# Altium integrated library TI Power Management Linear Regulator Dual Channel LDO.IntLib: 299 symbols (part 10 of 15)
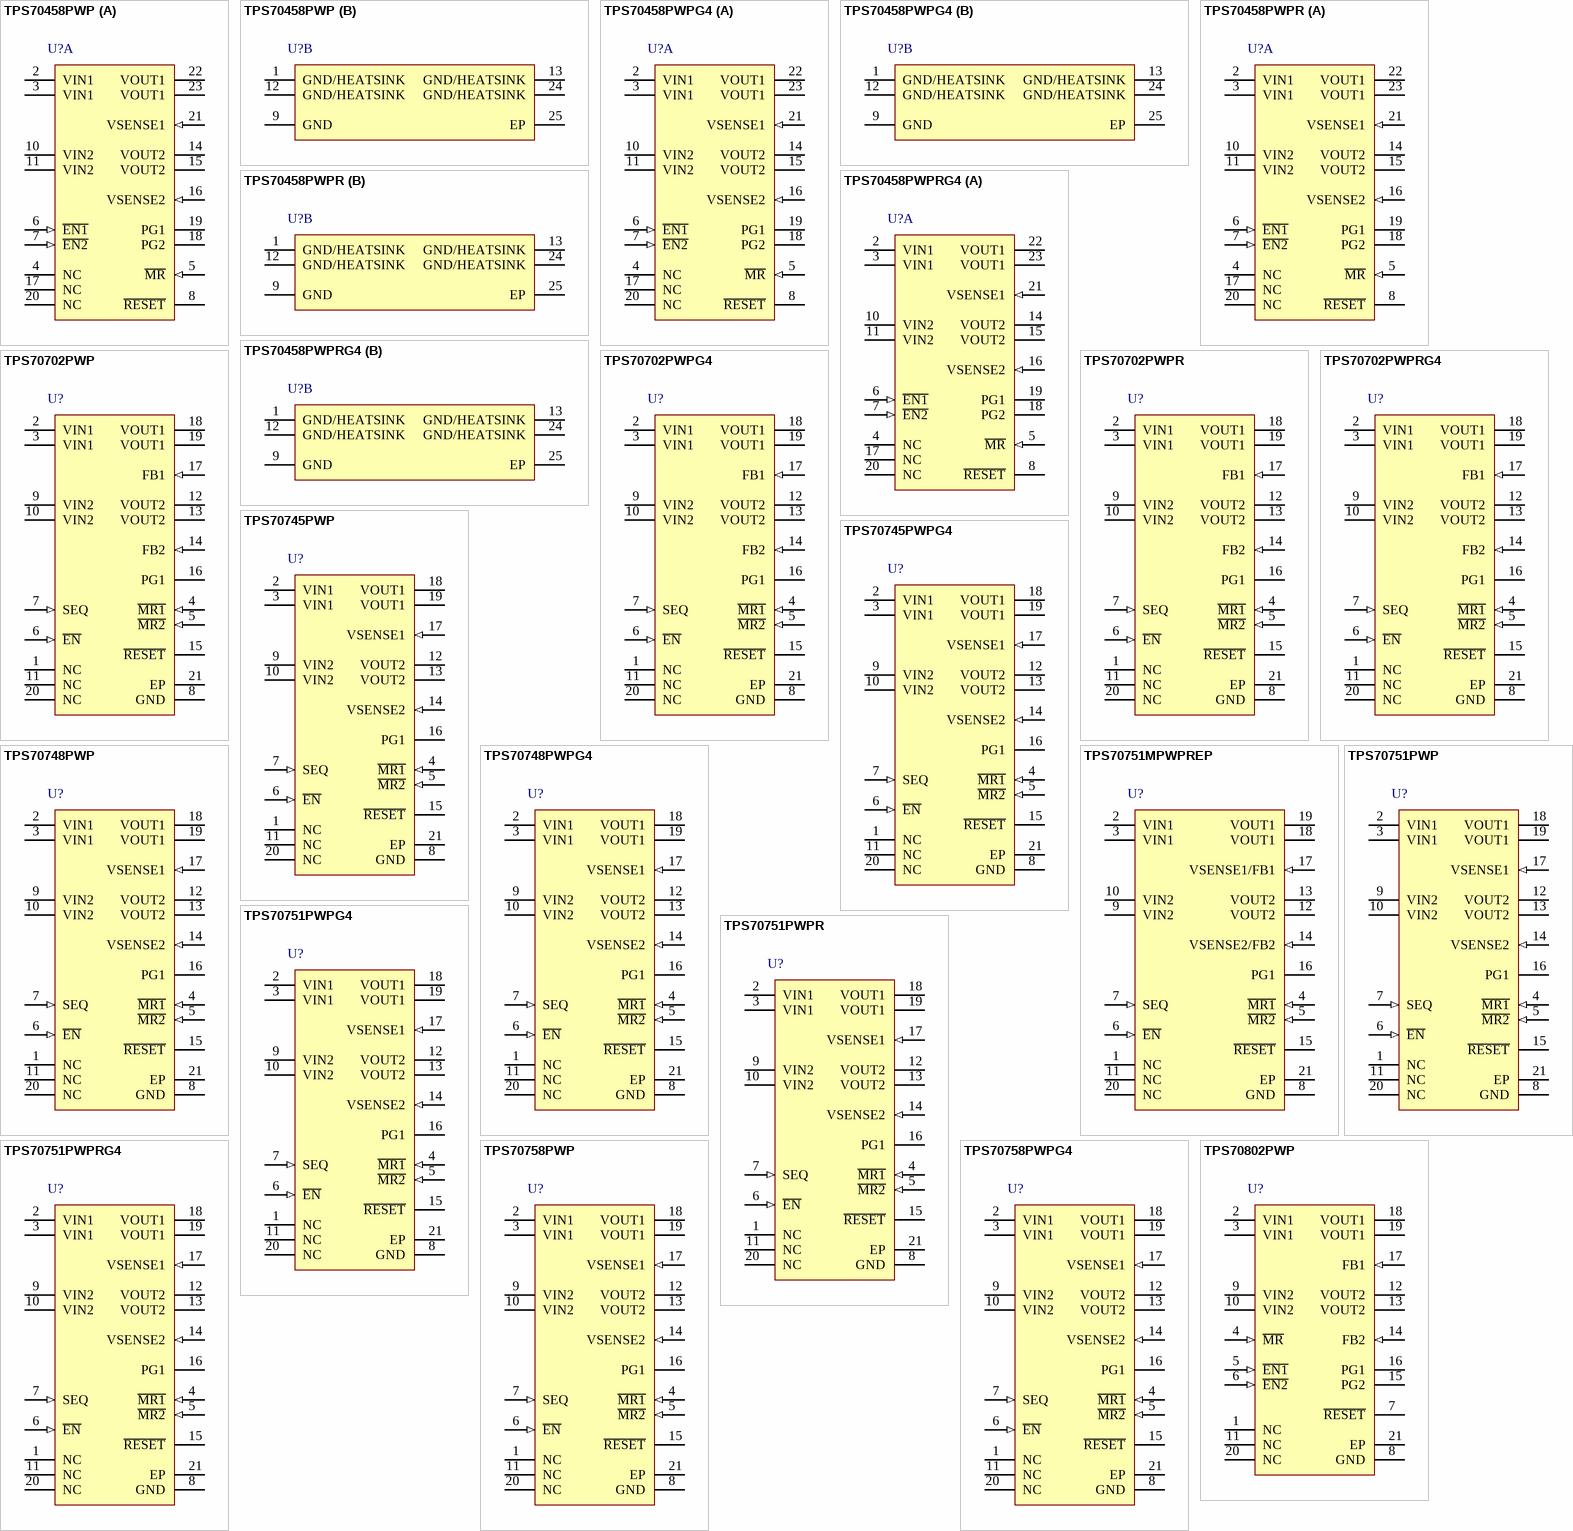
[diagram p20: symbols TPS70458PWP to TPS70802PWP]

## TPS70458PWPR
designator U?
Dual Output LDO, 1 A, Fixed 3.3, 2.5 V Output, 2.7 to 6 V Input, with Integrated SVS, 24-pin HTSSOP (PWP), -40 to 125 degC, Green (RoHS & no Sb/Br); Manufacturer: Texas Instruments; PartNumber: TPS70458PWPR; Iout(Max)(A): 1; Iout2(A): 2; Iq(Typ)(mA): 0.18; SubFamily: Dual Channel LDO; Vdo(Typ)(mV): 160; Vin(Max)(V): 6; Vin(Min)(V): 2.7; Vout(Max)(V): 3.3; Vout2(Max)(V): 2.5; DatasheetVersion: SLVS307F; PackageVersion: 4073225-5/I; PackageReference: PWP24-4210X2010TP; PackageDescription: 24-Pin Plastic Small Outline, Body 4.4 x 7.8 mm, Pitch 0.65 mm; Supplier 1: Digi-Key; Supplier Part Number 1: TPS70458PWPR-ND; Supplier 2: Mouser; Supplier Part Number 2: 595-TPS70458PWPR; Eco-Plan: Green (RoHS & no Sb/Br); Fixed Output Options(V): 3.3, 2.5; Vout(Min)(V): 3.3; Vout2(Min)(V): 2.5; Mounting Technology: Surface Mount; Code_JEDEC: MO-153; ComponentLink1Description: Manufacturer URL; ComponentLink1URL: http://www.ti.com/; ComponentLink2Description: Datasheet; ComponentLink2URL: http://www.ti.com/general/docs/lit/getliterature.tsp?genericPartNumber=TPS70458&fileType=pdf; ComponentLink3Description: Package Specification; ComponentLink3URL: http://www.ti.com/litv/pdf/mpds372
footprint TI-PWP24-4210X2010TP_N (SOP, 24-Leads, Body 7.8x4.4mm, Pitch 0.65mm, Thermal Pad 4.205X2.005mm, IPC Medium Density)
footprint TI-PWP24-4210X2010TP_L (SOP, 24-Leads, Body 7.8x4.4mm, Pitch 0.65mm, Thermal Pad 4.205X2.005mm, IPC High Density)
footprint TI-PWP24-4210X2010TP_M (SOP, 24-Leads, Body 7.8x4.4mm, Pitch 0.65mm, Thermal Pad 4.205X2.005mm, IPC Low Density)
part A pins: 2 VIN1 (power) "Input voltage of regulator 1", 3 VIN1 (power) "Input voltage of regulator 1", 4 NC "No connection", 5 ~{MR} (in) "Manual reset input, active low, pulled up internally", 6 ~{EN1} (in) "Active low enable for VOUT1", 7 ~{EN2} (in) "Active low enable for VOUT2", 8 ~{RESET} (hiz) "Open drain output, SVS (power-on reset) signal, active low", 10 VIN2 (power) "Input voltage of regulator 2", 11 VIN2 (power) "Input voltage of regulator 2", 14 VOUT2 (power) "Output voltage of regulator 2", 15 VOUT2 (power) "Output voltage of regulator 2", 16 VSENSE2 (in) "Regulator 2 output voltage sense", 17 NC "No connection", 18 PG2 (hiz) "Open drain output, low when VOUT2 voltage is less than 95% of the nominal regulated voltage", 19 PG1 (hiz) "Open drain output, low when VOUT1 voltage is less than 95% of the nominal regulated voltage", 20 NC "No connection", 21 VSENSE1 (in) "Regulator 1 output voltage sense", 22 VOUT1 (power) "Output voltage of regulator 1", 23 VOUT1 (power) "Output voltage of regulator 1"
part B pins: 1 GND/HEATSINK (power) "Ground/heatsink", 9 GND (power) "Ground", 12 GND/HEATSINK (power) "Ground/heatsink", 13 GND/HEATSINK (power) "Ground/heatsink", 24 GND/HEATSINK (power) "Ground/heatsink", 25 EP "Exposed Thermal Pad"

## TPS70458PWPRG4
designator U?
Dual Output LDO, 1 A, Fixed 3.3, 2.5 V Output, 2.7 to 6 V Input, with Integrated SVS, 24-pin HTSSOP (PWP), -40 to 125 degC, Green (RoHS & no Sb/Br); Manufacturer: Texas Instruments; PartNumber: TPS70458PWPRG4; Iout(Max)(A): 1; Iout2(A): 2; Iq(Typ)(mA): 0.18; SubFamily: Dual Channel LDO; Vdo(Typ)(mV): 160; Vin(Max)(V): 6; Vin(Min)(V): 2.7; Vout(Max)(V): 3.3; Vout2(Max)(V): 2.5; DatasheetVersion: SLVS307F; PackageVersion: 4073225-5/I; PackageReference: PWP24-4210X2010TP; PackageDescription: 24-Pin Plastic Small Outline, Body 4.4 x 7.8 mm, Pitch 0.65 mm; Supplier 1: Digi-Key; Supplier Part Number 1: TPS70458PWPRG4-ND; Supplier 2: Newark; Supplier Part Number 2: 54K1767; Supplier 3: Mouser; Supplier Part Number 3: 595-TPS70458PWPRG4; Eco-Plan: Green (RoHS & no Sb/Br); Fixed Output Options(V): 3.3, 2.5; Vout(Min)(V): 3.3; Vout2(Min)(V): 2.5; Mounting Technology: Surface Mount; Code_JEDEC: MO-153; ComponentLink1Description: Manufacturer URL; ComponentLink1URL: http://www.ti.com/; ComponentLink2Description: Datasheet; ComponentLink2URL: http://www.ti.com/general/docs/lit/getliterature.tsp?genericPartNumber=TPS70458&fileType=pdf; ComponentLink3Description: Package Specification; ComponentLink3URL: http://www.ti.com/litv/pdf/mpds372
footprint TI-PWP24-4210X2010TP_N (SOP, 24-Leads, Body 7.8x4.4mm, Pitch 0.65mm, Thermal Pad 4.205X2.005mm, IPC Medium Density)
footprint TI-PWP24-4210X2010TP_L (SOP, 24-Leads, Body 7.8x4.4mm, Pitch 0.65mm, Thermal Pad 4.205X2.005mm, IPC High Density)
footprint TI-PWP24-4210X2010TP_M (SOP, 24-Leads, Body 7.8x4.4mm, Pitch 0.65mm, Thermal Pad 4.205X2.005mm, IPC Low Density)
part A pins: 2 VIN1 (power) "Input voltage of regulator 1", 3 VIN1 (power) "Input voltage of regulator 1", 4 NC "No connection", 5 ~{MR} (in) "Manual reset input, active low, pulled up internally", 6 ~{EN1} (in) "Active low enable for VOUT1", 7 ~{EN2} (in) "Active low enable for VOUT2", 8 ~{RESET} (hiz) "Open drain output, SVS (power-on reset) signal, active low", 10 VIN2 (power) "Input voltage of regulator 2", 11 VIN2 (power) "Input voltage of regulator 2", 14 VOUT2 (power) "Output voltage of regulator 2", 15 VOUT2 (power) "Output voltage of regulator 2", 16 VSENSE2 (in) "Regulator 2 output voltage sense", 17 NC "No connection", 18 PG2 (hiz) "Open drain output, low when VOUT2 voltage is less than 95% of the nominal regulated voltage", 19 PG1 (hiz) "Open drain output, low when VOUT1 voltage is less than 95% of the nominal regulated voltage", 20 NC "No connection", 21 VSENSE1 (in) "Regulator 1 output voltage sense", 22 VOUT1 (power) "Output voltage of regulator 1", 23 VOUT1 (power) "Output voltage of regulator 1"
part B pins: 1 GND/HEATSINK (power) "Ground/heatsink", 9 GND (power) "Ground", 12 GND/HEATSINK (power) "Ground/heatsink", 13 GND/HEATSINK (power) "Ground/heatsink", 24 GND/HEATSINK (power) "Ground/heatsink", 25 EP "Exposed Thermal Pad"

## TPS70702PWP
designator U?
Dual Output LDO, 250 mA, Adjustable 1.22 to 5.5 V Output, 2.7 to 6 V Input, 20-pin HTSSOP (PWP), -40 to 125 degC, Green (RoHS & no Sb/Br); Manufacturer: Texas Instruments; PartNumber: TPS70702PWP; Iout(Max)(A): 0.2; Iout2(A): 0.1; Iq(Typ)(mA): 0.19; SubFamily: Dual Channel LDO; Vdo(Typ)(mV): 83; Vin(Max)(V): 6; Vin(Min)(V): 2.7; Vout2(Max)(V): 5.5; Vout2(Min)(V): 1.2; DatasheetVersion: SLVS291D; PackageVersion: 4073225-4/I; PackageReference: PWP20-3005X2005TP; PackageDescription: 20-Pin Plastic Small Outline, Body 6.50 x 4.40 mm, Pitch 0.65 mm; Supplier 1: Digi-Key; Supplier Part Number 1: 296-8031-5-ND; Supplier 2: Mouser; Supplier Part Number 2: 595-TPS70702PWP; Eco-Plan: Green (RoHS & no Sb/Br); Mounting Technology: Surface Mount; Code_JEDEC: MO-153; ComponentLink1Description: Manufacturer URL; ComponentLink1URL: http://www.ti.com/; ComponentLink2Description: Datasheet; ComponentLink2URL: http://www.ti.com/general/docs/lit/getliterature.tsp?genericPartNumber=TPS70702&fileType=pdf; ComponentLink3Description: Package Specification; ComponentLink3URL: http://www.ti.com/lit/ml/mhts001g/mhts001g.pdf
footprint TI-PWP20-3005X2005TP_N (SOP, 20-Leads, Body 6.5x4.4mm, Pitch 0.65mm, Thermal Pad 3.005 x 2.005mm, IPC Medium Density)
footprint TI-PWP20-3005X2005TP_L (SOP, 20-Leads, Body 6.5x4.4mm, Pitch 0.65mm, Thermal Pad 3.005 x 2.005mm, IPC High Density)
footprint TI-PWP20-3005X2005TP_M (SOP, 20-Leads, Body 6.5x4.4mm, Pitch 0.65mm, Thermal Pad 3.005 x 2.005mm, IPC Low Density)
pins: 1 NC "No connection", 2 VIN1 (power) "Input voltage of regulator 1", 3 VIN1 (power) "Input voltage of regulator 1", 4 ~{MR1} (in) "Manual reset input 1, active low, pulled up internally", 5 ~{MR2} (in) "Manual reset input 2, active low, pulled up internally", 6 ~{EN} (in) "Active low enable", 7 SEQ (in) "Power-up sequence control: SEQ = High, VOUT2 powers up first; SEQ = Low, VOUT1 powers up first. SEQ terminal pulled up internally.", 8 GND (power) "Ground", 9 VIN2 (power) "Input voltage of regulator 2", 10 VIN2 (power) "Input voltage of regulator 2", 11 NC "No connection", 12 VOUT2 (power) "Output voltage of regulator 2", 13 VOUT2 (power) "Output voltage of regulator 2", 14 FB2 (in) "regulator 2 feedback for adjustable", 15 ~{RESET} (hiz) "Open drain output, SVS (power-on reset) signal, active low", 16 PG1 (hiz) "Open drain output, low when VOUT1 voltage is less than 95% of the nominal regulated voltage", 17 FB1 (in) "regulator 1 feedback for adjustable", 18 VOUT1 (power) "Output voltage of regulator 1", 19 VOUT1 (power) "Output voltage of regulator 1", 20 NC "No connection", 21 EP (power) "Expoeed Thermal Pad"

## TPS70702PWPG4
designator U?
Dual Output LDO, 250 mA, Adjustable 1.22 to 5.5 V Output, 2.7 to 6 V Input, 20-pin HTSSOP (PWP), -40 to 125 degC, Green (RoHS & no Sb/Br); Manufacturer: Texas Instruments; PartNumber: TPS70702PWPG4; Iout(Max)(A): 0.2; Iout2(A): 0.1; Iq(Typ)(mA): 0.19; SubFamily: Dual Channel LDO; Vdo(Typ)(mV): 83; Vin(Max)(V): 6; Vin(Min)(V): 2.7; Vout2(Max)(V): 5.5; Vout2(Min)(V): 1.2; DatasheetVersion: SLVS291D; PackageVersion: 4073225-4/I; PackageReference: PWP20-3005X2005TP; PackageDescription: 20-Pin Plastic Small Outline, Body 6.50 x 4.40 mm, Pitch 0.65 mm; Supplier 1: Digi-Key; Supplier Part Number 1: TPS70702PWPG4-ND; Supplier 2: Mouser; Supplier Part Number 2: 595-TPS70702PWPG4; Eco-Plan: Green (RoHS & no Sb/Br); Mounting Technology: Surface Mount; Code_JEDEC: MO-153; ComponentLink1Description: Manufacturer URL; ComponentLink1URL: http://www.ti.com/; ComponentLink2Description: Datasheet; ComponentLink2URL: http://www.ti.com/general/docs/lit/getliterature.tsp?genericPartNumber=TPS70702&fileType=pdf; ComponentLink3Description: Package Specification; ComponentLink3URL: http://www.ti.com/lit/ml/mhts001g/mhts001g.pdf
footprint TI-PWP20-3005X2005TP_N (SOP, 20-Leads, Body 6.5x4.4mm, Pitch 0.65mm, Thermal Pad 3.005 x 2.005mm, IPC Medium Density)
footprint TI-PWP20-3005X2005TP_L (SOP, 20-Leads, Body 6.5x4.4mm, Pitch 0.65mm, Thermal Pad 3.005 x 2.005mm, IPC High Density)
footprint TI-PWP20-3005X2005TP_M (SOP, 20-Leads, Body 6.5x4.4mm, Pitch 0.65mm, Thermal Pad 3.005 x 2.005mm, IPC Low Density)
pins: 1 NC "No connection", 2 VIN1 (power) "Input voltage of regulator 1", 3 VIN1 (power) "Input voltage of regulator 1", 4 ~{MR1} (in) "Manual reset input 1, active low, pulled up internally", 5 ~{MR2} (in) "Manual reset input 2, active low, pulled up internally", 6 ~{EN} (in) "Active low enable", 7 SEQ (in) "Power-up sequence control: SEQ = High, VOUT2 powers up first; SEQ = Low, VOUT1 powers up first. SEQ terminal pulled up internally.", 8 GND (power) "Ground", 9 VIN2 (power) "Input voltage of regulator 2", 10 VIN2 (power) "Input voltage of regulator 2", 11 NC "No connection", 12 VOUT2 (power) "Output voltage of regulator 2", 13 VOUT2 (power) "Output voltage of regulator 2", 14 FB2 (in) "regulator 2 feedback for adjustable", 15 ~{RESET} (hiz) "Open drain output, SVS (power-on reset) signal, active low", 16 PG1 (hiz) "Open drain output, low when VOUT1 voltage is less than 95% of the nominal regulated voltage", 17 FB1 (in) "regulator 1 feedback for adjustable", 18 VOUT1 (power) "Output voltage of regulator 1", 19 VOUT1 (power) "Output voltage of regulator 1", 20 NC "No connection", 21 EP (power) "Expoeed Thermal Pad"

## TPS70702PWPR
designator U?
Dual Output LDO, 250 mA, Adjustable 1.22 to 5.5 V Output, 2.7 to 6 V Input, 20-pin HTSSOP (PWP), -40 to 125 degC, Green (RoHS & no Sb/Br); Manufacturer: Texas Instruments; PartNumber: TPS70702PWPR; Iout(Max)(A): 0.2; Iout2(A): 0.1; Iq(Typ)(mA): 0.19; SubFamily: Dual Channel LDO; Vdo(Typ)(mV): 83; Vin(Max)(V): 6; Vin(Min)(V): 2.7; Vout2(Max)(V): 5.5; Vout2(Min)(V): 1.2; DatasheetVersion: SLVS291D; PackageVersion: 4073225-4/I; PackageReference: PWP20-3005X2005TP; PackageDescription: 20-Pin Plastic Small Outline, Body 6.50 x 4.40 mm, Pitch 0.65 mm; Supplier 1: Digi-Key; Supplier Part Number 1: TPS70702PWPR-ND; Supplier 2: Mouser; Supplier Part Number 2: 595-TPS70702PWPR; Eco-Plan: Green (RoHS & no Sb/Br); Mounting Technology: Surface Mount; Code_JEDEC: MO-153; ComponentLink1Description: Manufacturer URL; ComponentLink1URL: http://www.ti.com/; ComponentLink2Description: Datasheet; ComponentLink2URL: http://www.ti.com/general/docs/lit/getliterature.tsp?genericPartNumber=TPS70702&fileType=pdf; ComponentLink3Description: Package Specification; ComponentLink3URL: http://www.ti.com/lit/ml/mhts001g/mhts001g.pdf
footprint TI-PWP20-3005X2005TP_N (SOP, 20-Leads, Body 6.5x4.4mm, Pitch 0.65mm, Thermal Pad 3.005 x 2.005mm, IPC Medium Density)
footprint TI-PWP20-3005X2005TP_L (SOP, 20-Leads, Body 6.5x4.4mm, Pitch 0.65mm, Thermal Pad 3.005 x 2.005mm, IPC High Density)
footprint TI-PWP20-3005X2005TP_M (SOP, 20-Leads, Body 6.5x4.4mm, Pitch 0.65mm, Thermal Pad 3.005 x 2.005mm, IPC Low Density)
pins: 1 NC "No connection", 2 VIN1 (power) "Input voltage of regulator 1", 3 VIN1 (power) "Input voltage of regulator 1", 4 ~{MR1} (in) "Manual reset input 1, active low, pulled up internally", 5 ~{MR2} (in) "Manual reset input 2, active low, pulled up internally", 6 ~{EN} (in) "Active low enable", 7 SEQ (in) "Power-up sequence control: SEQ = High, VOUT2 powers up first; SEQ = Low, VOUT1 powers up first. SEQ terminal pulled up internally.", 8 GND (power) "Ground", 9 VIN2 (power) "Input voltage of regulator 2", 10 VIN2 (power) "Input voltage of regulator 2", 11 NC "No connection", 12 VOUT2 (power) "Output voltage of regulator 2", 13 VOUT2 (power) "Output voltage of regulator 2", 14 FB2 (in) "regulator 2 feedback for adjustable", 15 ~{RESET} (hiz) "Open drain output, SVS (power-on reset) signal, active low", 16 PG1 (hiz) "Open drain output, low when VOUT1 voltage is less than 95% of the nominal regulated voltage", 17 FB1 (in) "regulator 1 feedback for adjustable", 18 VOUT1 (power) "Output voltage of regulator 1", 19 VOUT1 (power) "Output voltage of regulator 1", 20 NC "No connection", 21 EP (power) "Expoeed Thermal Pad"

## TPS70702PWPRG4
designator U?
Dual Output LDO, 250 mA, Adjustable 1.22 to 5.5 V Output, 2.7 to 6 V Input, 20-pin HTSSOP (PWP), -40 to 125 degC, Green (RoHS & no Sb/Br); Manufacturer: Texas Instruments; PartNumber: TPS70702PWPRG4; Iout(Max)(A): 0.2; Iout2(A): 0.1; Iq(Typ)(mA): 0.19; SubFamily: Dual Channel LDO; Vdo(Typ)(mV): 83; Vin(Max)(V): 6; Vin(Min)(V): 2.7; Vout2(Max)(V): 5.5; Vout2(Min)(V): 1.2; DatasheetVersion: SLVS291D; PackageVersion: 4073225-4/I; PackageReference: PWP20-3005X2005TP; PackageDescription: 20-Pin Plastic Small Outline, Body 6.50 x 4.40 mm, Pitch 0.65 mm; Supplier 1: Digi-Key; Supplier Part Number 1: TPS70702PWPRG4-ND; Supplier 2: Mouser; Supplier Part Number 2: 595-TPS70702PWPRG4; Eco-Plan: Green (RoHS & no Sb/Br); Mounting Technology: Surface Mount; Code_JEDEC: MO-153; ComponentLink1Description: Manufacturer URL; ComponentLink1URL: http://www.ti.com/; ComponentLink2Description: Datasheet; ComponentLink2URL: http://www.ti.com/general/docs/lit/getliterature.tsp?genericPartNumber=TPS70702&fileType=pdf; ComponentLink3Description: Package Specification; ComponentLink3URL: http://www.ti.com/lit/ml/mhts001g/mhts001g.pdf
footprint TI-PWP20-3005X2005TP_N (SOP, 20-Leads, Body 6.5x4.4mm, Pitch 0.65mm, Thermal Pad 3.005 x 2.005mm, IPC Medium Density)
footprint TI-PWP20-3005X2005TP_L (SOP, 20-Leads, Body 6.5x4.4mm, Pitch 0.65mm, Thermal Pad 3.005 x 2.005mm, IPC High Density)
footprint TI-PWP20-3005X2005TP_M (SOP, 20-Leads, Body 6.5x4.4mm, Pitch 0.65mm, Thermal Pad 3.005 x 2.005mm, IPC Low Density)
pins: 1 NC "No connection", 2 VIN1 (power) "Input voltage of regulator 1", 3 VIN1 (power) "Input voltage of regulator 1", 4 ~{MR1} (in) "Manual reset input 1, active low, pulled up internally", 5 ~{MR2} (in) "Manual reset input 2, active low, pulled up internally", 6 ~{EN} (in) "Active low enable", 7 SEQ (in) "Power-up sequence control: SEQ = High, VOUT2 powers up first; SEQ = Low, VOUT1 powers up first. SEQ terminal pulled up internally.", 8 GND (power) "Ground", 9 VIN2 (power) "Input voltage of regulator 2", 10 VIN2 (power) "Input voltage of regulator 2", 11 NC "No connection", 12 VOUT2 (power) "Output voltage of regulator 2", 13 VOUT2 (power) "Output voltage of regulator 2", 14 FB2 (in) "regulator 2 feedback for adjustable", 15 ~{RESET} (hiz) "Open drain output, SVS (power-on reset) signal, active low", 16 PG1 (hiz) "Open drain output, low when VOUT1 voltage is less than 95% of the nominal regulated voltage", 17 FB1 (in) "regulator 1 feedback for adjustable", 18 VOUT1 (power) "Output voltage of regulator 1", 19 VOUT1 (power) "Output voltage of regulator 1", 20 NC "No connection", 21 EP (power) "Expoeed Thermal Pad"

## TPS70745PWP
designator U?
Dual Output LDO, 250 mA, Fixed 3.3, 1.2 V Output, 2.7 to 6 V Input, 20-pin HTSSOP (PWP), -40 to 125 degC, Green (RoHS & no Sb/Br); Manufacturer: Texas Instruments; PartNumber: TPS70745PWP; Iout(Max)(A): 0.2; Iout2(A): 0.1; Iq(Typ)(mA): 0.19; SubFamily: Dual Channel LDO; Vdo(Typ)(mV): 83; Vin(Max)(V): 6; Vin(Min)(V): 2.7; Vout(Max)(V): 3.3; Vout2(Max)(V): 1.2; DatasheetVersion: SLVS291D; PackageVersion: 4073225-4/I; PackageReference: PWP20-3005X2005TP; PackageDescription: 20-Pin Plastic Small Outline, Body 6.50 x 4.40 mm, Pitch 0.65 mm; Supplier 1: Digi-Key; Supplier Part Number 1: 296-8032-5-ND; Supplier 2: Newark; Supplier Part Number 2: 77C0782; Supplier 3: Mouser; Supplier Part Number 3: 595-TPS70745PWP; Eco-Plan: Green (RoHS & no Sb/Br); Fixed Output Options(V): 3.3, 1.2; Vout(Min)(V): 3.3; Vout2(Min)(V): 1.2; Mounting Technology: Surface Mount; Code_JEDEC: MO-153; ComponentLink1Description: Manufacturer URL; ComponentLink1URL: http://www.ti.com/; ComponentLink2Description: Datasheet; ComponentLink2URL: http://www.ti.com/general/docs/lit/getliterature.tsp?genericPartNumber=TPS70745&fileType=pdf; ComponentLink3Description: Package Specification; ComponentLink3URL: http://www.ti.com/lit/ml/mhts001g/mhts001g.pdf
footprint TI-PWP20-3005X2005TP_N (SOP, 20-Leads, Body 6.5x4.4mm, Pitch 0.65mm, Thermal Pad 3.005 x 2.005mm, IPC Medium Density)
footprint TI-PWP20-3005X2005TP_L (SOP, 20-Leads, Body 6.5x4.4mm, Pitch 0.65mm, Thermal Pad 3.005 x 2.005mm, IPC High Density)
footprint TI-PWP20-3005X2005TP_M (SOP, 20-Leads, Body 6.5x4.4mm, Pitch 0.65mm, Thermal Pad 3.005 x 2.005mm, IPC Low Density)
pins: 1 NC "No connection", 2 VIN1 (power) "Input voltage of regulator 1", 3 VIN1 (power) "Input voltage of regulator 1", 4 ~{MR1} (in) "Manual reset input 1, active low, pulled up internally", 5 ~{MR2} (in) "Manual reset input 2, active low, pulled up internally", 6 ~{EN} (in) "Active low enable", 7 SEQ (in) "Power-up sequence control: SEQ = High, VOUT2 powers up first; SEQ = Low, VOUT1 powers up first. SEQ terminal pulled up internally.", 8 GND (power) "Ground", 9 VIN2 (power) "Input voltage of regulator 2", 10 VIN2 (power) "Input voltage of regulator 2", 11 NC "No connection", 12 VOUT2 (power) "Output voltage of regulator 2", 13 VOUT2 (power) "Output voltage of regulator 2", 14 VSENSE2 (in) "Regulator 2 output voltage sense", 15 ~{RESET} (hiz) "Open drain output, SVS (power-on reset) signal, active low", 16 PG1 (hiz) "Open drain output, low when VOUT1 voltage is less than 95% of the nominal regulated voltage", 17 VSENSE1 (in) "Regulator 1 output voltage sense", 18 VOUT1 (power) "Output voltage of regulator 1", 19 VOUT1 (power) "Output voltage of regulator 1", 20 NC "No connection", 21 EP "Exposed Thermal Pad"

## TPS70745PWPG4
designator U?
Dual Output LDO, 250 mA, Fixed 3.3, 1.2 V Output, 2.7 to 6 V Input, 20-pin HTSSOP (PWP), -40 to 125 degC, Green (RoHS & no Sb/Br); Manufacturer: Texas Instruments; PartNumber: TPS70745PWPG4; Iout(Max)(A): 0.2; Iout2(A): 0.1; Iq(Typ)(mA): 0.19; SubFamily: Dual Channel LDO; Vdo(Typ)(mV): 83; Vin(Max)(V): 6; Vin(Min)(V): 2.7; Vout(Max)(V): 3.3; Vout2(Max)(V): 1.2; DatasheetVersion: SLVS291D; PackageVersion: 4073225-4/I; PackageReference: PWP20-3005X2005TP; PackageDescription: 20-Pin Plastic Small Outline, Body 6.50 x 4.40 mm, Pitch 0.65 mm; Supplier 1: Digi-Key; Supplier Part Number 1: TPS70745PWPG4-ND; Supplier 2: Newark; Supplier Part Number 2: 41M5897; Supplier 3: Mouser; Supplier Part Number 3: 595-TPS70745PWPG4; Eco-Plan: Green (RoHS & no Sb/Br); Fixed Output Options(V): 3.3, 1.2; Vout(Min)(V): 3.3; Vout2(Min)(V): 1.2; Mounting Technology: Surface Mount; Code_JEDEC: MO-153; ComponentLink1Description: Manufacturer URL; ComponentLink1URL: http://www.ti.com/; ComponentLink2Description: Datasheet; ComponentLink2URL: http://www.ti.com/general/docs/lit/getliterature.tsp?genericPartNumber=TPS70745&fileType=pdf; ComponentLink3Description: Package Specification; ComponentLink3URL: http://www.ti.com/lit/ml/mhts001g/mhts001g.pdf
footprint TI-PWP20-3005X2005TP_N (SOP, 20-Leads, Body 6.5x4.4mm, Pitch 0.65mm, Thermal Pad 3.005 x 2.005mm, IPC Medium Density)
footprint TI-PWP20-3005X2005TP_L (SOP, 20-Leads, Body 6.5x4.4mm, Pitch 0.65mm, Thermal Pad 3.005 x 2.005mm, IPC High Density)
footprint TI-PWP20-3005X2005TP_M (SOP, 20-Leads, Body 6.5x4.4mm, Pitch 0.65mm, Thermal Pad 3.005 x 2.005mm, IPC Low Density)
pins: 1 NC "No connection", 2 VIN1 (power) "Input voltage of regulator 1", 3 VIN1 (power) "Input voltage of regulator 1", 4 ~{MR1} (in) "Manual reset input 1, active low, pulled up internally", 5 ~{MR2} (in) "Manual reset input 2, active low, pulled up internally", 6 ~{EN} (in) "Active low enable", 7 SEQ (in) "Power-up sequence control: SEQ = High, VOUT2 powers up first; SEQ = Low, VOUT1 powers up first. SEQ terminal pulled up internally.", 8 GND (power) "Ground", 9 VIN2 (power) "Input voltage of regulator 2", 10 VIN2 (power) "Input voltage of regulator 2", 11 NC "No connection", 12 VOUT2 (power) "Output voltage of regulator 2", 13 VOUT2 (power) "Output voltage of regulator 2", 14 VSENSE2 (in) "Regulator 2 output voltage sense", 15 ~{RESET} (hiz) "Open drain output, SVS (power-on reset) signal, active low", 16 PG1 (hiz) "Open drain output, low when VOUT1 voltage is less than 95% of the nominal regulated voltage", 17 VSENSE1 (in) "Regulator 1 output voltage sense", 18 VOUT1 (power) "Output voltage of regulator 1", 19 VOUT1 (power) "Output voltage of regulator 1", 20 NC "No connection", 21 EP "Exposed Thermal Pad"

## TPS70748PWP
designator U?
Dual Output LDO, 250 mA, Fixed 3.3, 1.5 V Output, 2.7 to 6 V Input, 20-pin HTSSOP (PWP), -40 to 125 degC, Green (RoHS & no Sb/Br); Manufacturer: Texas Instruments; PartNumber: TPS70748PWP; Iout(Max)(A): 0.2; Iout2(A): 0.1; Iq(Typ)(mA): 0.19; SubFamily: Dual Channel LDO; Vdo(Typ)(mV): 83; Vin(Max)(V): 6; Vin(Min)(V): 2.7; Vout(Max)(V): 3.3; Vout2(Max)(V): 1.5; DatasheetVersion: SLVS291D; PackageVersion: 4073225-4/I; PackageReference: PWP20-3005X2005TP; PackageDescription: 20-Pin Plastic Small Outline, Body 6.50 x 4.40 mm, Pitch 0.65 mm; Supplier 1: Digi-Key; Supplier Part Number 1: 296-8033-5-ND; Supplier 2: Mouser; Supplier Part Number 2: 595-TPS70748PWP; Eco-Plan: Green (RoHS & no Sb/Br); Fixed Output Options(V): 3.3, 1.5; Vout(Min)(V): 3.3; Vout2(Min)(V): 1.5; Mounting Technology: Surface Mount; Code_JEDEC: MO-153; ComponentLink1Description: Manufacturer URL; ComponentLink1URL: http://www.ti.com/; ComponentLink2Description: Datasheet; ComponentLink2URL: http://www.ti.com/general/docs/lit/getliterature.tsp?genericPartNumber=TPS70748&fileType=pdf; ComponentLink3Description: Package Specification; ComponentLink3URL: http://www.ti.com/lit/ml/mhts001g/mhts001g.pdf
footprint TI-PWP20-3005X2005TP_N (SOP, 20-Leads, Body 6.5x4.4mm, Pitch 0.65mm, Thermal Pad 3.005 x 2.005mm, IPC Medium Density)
footprint TI-PWP20-3005X2005TP_L (SOP, 20-Leads, Body 6.5x4.4mm, Pitch 0.65mm, Thermal Pad 3.005 x 2.005mm, IPC High Density)
footprint TI-PWP20-3005X2005TP_M (SOP, 20-Leads, Body 6.5x4.4mm, Pitch 0.65mm, Thermal Pad 3.005 x 2.005mm, IPC Low Density)
pins: 1 NC "No connection", 2 VIN1 (power) "Input voltage of regulator 1", 3 VIN1 (power) "Input voltage of regulator 1", 4 ~{MR1} (in) "Manual reset input 1, active low, pulled up internally", 5 ~{MR2} (in) "Manual reset input 2, active low, pulled up internally", 6 ~{EN} (in) "Active low enable", 7 SEQ (in) "Power-up sequence control: SEQ = High, VOUT2 powers up first; SEQ = Low, VOUT1 powers up first. SEQ terminal pulled up internally.", 8 GND (power) "Ground", 9 VIN2 (power) "Input voltage of regulator 2", 10 VIN2 (power) "Input voltage of regulator 2", 11 NC "No connection", 12 VOUT2 (power) "Output voltage of regulator 2", 13 VOUT2 (power) "Output voltage of regulator 2", 14 VSENSE2 (in) "Regulator 2 output voltage sense", 15 ~{RESET} (hiz) "Open drain output, SVS (power-on reset) signal, active low", 16 PG1 (hiz) "Open drain output, low when VOUT1 voltage is less than 95% of the nominal regulated voltage", 17 VSENSE1 (in) "Regulator 1 output voltage sense", 18 VOUT1 (power) "Output voltage of regulator 1", 19 VOUT1 (power) "Output voltage of regulator 1", 20 NC "No connection", 21 EP (power) "Exposed Thermal Pad"

## TPS70748PWPG4
designator U?
Dual Output LDO, 250 mA, Fixed 3.3, 1.5 V Output, 2.7 to 6 V Input, 20-pin HTSSOP (PWP), -40 to 125 degC, Green (RoHS & no Sb/Br); Manufacturer: Texas Instruments; PartNumber: TPS70748PWPG4; Iout(Max)(A): 0.2; Iout2(A): 0.1; Iq(Typ)(mA): 0.19; SubFamily: Dual Channel LDO; Vdo(Typ)(mV): 83; Vin(Max)(V): 6; Vin(Min)(V): 2.7; Vout(Max)(V): 3.3; Vout2(Max)(V): 1.5; DatasheetVersion: SLVS291D; PackageVersion: 4073225-4/I; PackageReference: PWP20-3005X2005TP; PackageDescription: 20-Pin Plastic Small Outline, Body 6.50 x 4.40 mm, Pitch 0.65 mm; Supplier 1: Digi-Key; Supplier Part Number 1: TPS70748PWPG4-ND; Supplier 2: Mouser; Supplier Part Number 2: 595-TPS70748PWPG4; Eco-Plan: Green (RoHS & no Sb/Br); Fixed Output Options(V): 3.3, 1.5; Vout(Min)(V): 3.3; Vout2(Min)(V): 1.5; Mounting Technology: Surface Mount; Code_JEDEC: MO-153; ComponentLink1Description: Manufacturer URL; ComponentLink1URL: http://www.ti.com/; ComponentLink2Description: Datasheet; ComponentLink2URL: http://www.ti.com/general/docs/lit/getliterature.tsp?genericPartNumber=TPS70748&fileType=pdf; ComponentLink3Description: Package Specification; ComponentLink3URL: http://www.ti.com/lit/ml/mhts001g/mhts001g.pdf
footprint TI-PWP20-3005X2005TP_N (SOP, 20-Leads, Body 6.5x4.4mm, Pitch 0.65mm, Thermal Pad 3.005 x 2.005mm, IPC Medium Density)
footprint TI-PWP20-3005X2005TP_L (SOP, 20-Leads, Body 6.5x4.4mm, Pitch 0.65mm, Thermal Pad 3.005 x 2.005mm, IPC High Density)
footprint TI-PWP20-3005X2005TP_M (SOP, 20-Leads, Body 6.5x4.4mm, Pitch 0.65mm, Thermal Pad 3.005 x 2.005mm, IPC Low Density)
pins: 1 NC "No connection", 2 VIN1 (power) "Input voltage of regulator 1", 3 VIN1 (power) "Input voltage of regulator 1", 4 ~{MR1} (in) "Manual reset input 1, active low, pulled up internally", 5 ~{MR2} (in) "Manual reset input 2, active low, pulled up internally", 6 ~{EN} (in) "Active low enable", 7 SEQ (in) "Power-up sequence control: SEQ = High, VOUT2 powers up first; SEQ = Low, VOUT1 powers up first. SEQ terminal pulled up internally.", 8 GND (power) "Ground", 9 VIN2 (power) "Input voltage of regulator 2", 10 VIN2 (power) "Input voltage of regulator 2", 11 NC "No connection", 12 VOUT2 (power) "Output voltage of regulator 2", 13 VOUT2 (power) "Output voltage of regulator 2", 14 VSENSE2 (in) "Regulator 2 output voltage sense", 15 ~{RESET} (hiz) "Open drain output, SVS (power-on reset) signal, active low", 16 PG1 (hiz) "Open drain output, low when VOUT1 voltage is less than 95% of the nominal regulated voltage", 17 VSENSE1 (in) "Regulator 1 output voltage sense", 18 VOUT1 (power) "Output voltage of regulator 1", 19 VOUT1 (power) "Output voltage of regulator 1", 20 NC "No connection", 21 EP (power) "Exposed Thermal Pad"

## TPS70751MPWPREP
designator U?
Dual Output LDO, 200 mA, Fixed 3.3, 1.8 V Output, 2.7 to 6 V Input, with Power-Up Sequencing, 20-pin HTSSOP (PWP), -55 to 125 degC, Green (RoHS & no Sb/Br); Manufacturer: Texas Instruments; PartNumber: TPS70751MPWPREP; Iout(Max)(A): 0.2; Iout2(A): 0.1; Iq(Typ)(mA): 0.19; SubFamily: Dual Channel LDO; Vdo(Typ)(mV): 83; Vin(Max)(V): 6; Vin(Min)(V): 2.7; Vout(Max)(V): 3.3; DatasheetVersion: SLVS718; PackageVersion: 4073225-4/1; PackageReference: PWP20-3605X2005TP; PackageDescription: 20-Pin Plastic Small Outline, Body 6.50 × 4.40 mm, Pitch 0.65 mm; Supplier 1: Digi-Key; Supplier Part Number 1: 296-22479-2-ND; Supplier 2: Digi-Key; Supplier Part Number 2: 296-22479-1-ND; Supplier 3: Digi-Key; Supplier Part Number 3: 296-22479-6-ND; Supplier 4: Newark; Supplier Part Number 4: 46M1136; Supplier 5: Mouser; Supplier Part Number 5: 595-TPS70751MPWPREP; Eco-Plan: Green (RoHS & no Sb/Br); Fixed Output Options(V): 3.3, 1.8; Vout(Min)(V): 3.3; Mounting Technology: Surface Mount; Code_JEDEC: MO-153; ComponentLink1Description: Manufacturer URL; ComponentLink1URL: http://www.ti.com/; ComponentLink2Description: Datasheet; ComponentLink2URL: http://www.ti.com/general/docs/lit/getliterature.tsp?genericPartNumber=TPS70751-EP&fileType=pdf; ComponentLink3Description: Package Specification; ComponentLink3URL: http://www.ti.com/litv/pdf/mhts001g
footprint TI-PWP20-3605X2005TP_N (SOP, 20-Leads, Body 6.5x4.4mm, Pitch 0.65mm, Thermal Pad 3.605x2.005mm, IPC Medium Density)
footprint TI-PWP20-3605X2005TP_L (SOP, 20-Leads, Body 6.5x4.4mm, Pitch 0.65mm, Thermal Pad 3.605x2.005mm, IPC High Density)
footprint TI-PWP20-3605X2005TP_M (SOP, 20-Leads, Body 6.5x4.4mm, Pitch 0.65mm, Thermal Pad 3.605x2.005mm, IPC Low Density)
pins: 1 NC "No connection", 2 VIN1 (power) "Regulator 1 input voltage", 3 VIN1 (power) "Regulator 1 input voltage", 4 ~{MR1} (in) "Manual reset input 1, active low, pulled up internally", 5 ~{MR2} (in) "Manual reset input 2, active low, pulled up internally", 6 ~{EN} (in) "Active low enable", 7 SEQ (in) "Power-up sequence control: SEQ = High, VOUT2 powers up first; SEQ = Low, VOUT1 powers up first, SEQ terminal pulled up internally.", 8 GND (power) "Ground", 9 VIN2 (power) "Regulator 2 input voltage", 10 VIN2 (power) "Regulator 2 input voltage", 11 NC "No connection", 12 VOUT2 (power) "Regulator 2 output voltage", 13 VOUT2 (power) "Regulator 2 output voltage", 14 VSENSE2/FB2 (in) "Regulator 2 output voltage sense/feedback 2", 15 ~{RESET} (hiz) "Open drain output, SVS (power-on reset) signal, active low", 16 PG1 (hiz) "Open drain output, low when VOUT1 voltage is less than 95% of the nominal regulated voltage", 17 VSENSE1/FB1 (in) "Regulator 1 output voltage sense/feedback 1", 18 VOUT1 (power) "Regulator 1 output voltage", 19 VOUT1 (power) "Regulator 1 output voltage", 20 NC "No connection", 21 EP "Exposed Thermal Pad"

## TPS70751PWP
designator U?
Dual Output LDO, 250 mA, Fixed 3.3, 1.8 V Output, 2.7 to 6 V Input, 20-pin HTSSOP (PWP), -40 to 125 degC, Green (RoHS & no Sb/Br); Manufacturer: Texas Instruments; PartNumber: TPS70751PWP; Iout(Max)(A): 0.2; Iout2(A): 0.1; Iq(Typ)(mA): 0.19; SubFamily: Dual Channel LDO; Vdo(Typ)(mV): 83; Vin(Max)(V): 6; Vin(Min)(V): 2.7; Vout(Max)(V): 3.3; Vout2(Max)(V): 1.8; DatasheetVersion: SLVS291D; PackageVersion: 4073225-4/I; PackageReference: PWP20-3005X2005TP; PackageDescription: 20-Pin Plastic Small Outline, Body 6.50 x 4.40 mm, Pitch 0.65 mm; Supplier 1: Digi-Key; Supplier Part Number 1: 296-8034-5-ND; Supplier 2: Newark; Supplier Part Number 2: 77C0786; Supplier 3: Mouser; Supplier Part Number 3: 595-TPS70751PWP; Eco-Plan: Green (RoHS & no Sb/Br); Fixed Output Options(V): 3.3, 1.8; Vout(Min)(V): 3.3; Vout2(Min)(V): 1.8; Mounting Technology: Surface Mount; Code_JEDEC: MO-153; ComponentLink1Description: Manufacturer URL; ComponentLink1URL: http://www.ti.com/; ComponentLink2Description: Datasheet; ComponentLink2URL: http://www.ti.com/general/docs/lit/getliterature.tsp?genericPartNumber=TPS70751&fileType=pdf; ComponentLink3Description: Package Specification; ComponentLink3URL: http://www.ti.com/lit/ml/mhts001g/mhts001g.pdf
footprint TI-PWP20-3005X2005TP_N (SOP, 20-Leads, Body 6.5x4.4mm, Pitch 0.65mm, Thermal Pad 3.005 x 2.005mm, IPC Medium Density)
footprint TI-PWP20-3005X2005TP_L (SOP, 20-Leads, Body 6.5x4.4mm, Pitch 0.65mm, Thermal Pad 3.005 x 2.005mm, IPC High Density)
footprint TI-PWP20-3005X2005TP_M (SOP, 20-Leads, Body 6.5x4.4mm, Pitch 0.65mm, Thermal Pad 3.005 x 2.005mm, IPC Low Density)
pins: 1 NC "No connection", 2 VIN1 (power) "Input voltage of regulator 1", 3 VIN1 (power) "Input voltage of regulator 1", 4 ~{MR1} (in) "Manual reset input 1, active low, pulled up internally", 5 ~{MR2} (in) "Manual reset input 2, active low, pulled up internally", 6 ~{EN} (in) "Active low enable", 7 SEQ (in) "Power-up sequence control: SEQ = High, VOUT2 powers up first; SEQ = Low, VOUT1 powers up first. SEQ terminal pulled up internally.", 8 GND (power) "Ground", 9 VIN2 (power) "Input voltage of regulator 2", 10 VIN2 (power) "Input voltage of regulator 2", 11 NC "No connection", 12 VOUT2 (power) "Output voltage of regulator 2", 13 VOUT2 (power) "Output voltage of regulator 2", 14 VSENSE2 (in) "Regulator 2 output voltage sense", 15 ~{RESET} (hiz) "Open drain output, SVS (power-on reset) signal, active low", 16 PG1 (hiz) "Open drain output, low when VOUT1 voltage is less than 95% of the nominal regulated voltage", 17 VSENSE1 (in) "Regulator 1 output voltage sense", 18 VOUT1 (power) "Output voltage of regulator 1", 19 VOUT1 (power) "Output voltage of regulator 1", 20 NC "No connection", 21 EP "Exposed Thermal Pad"

## TPS70751PWPG4
designator U?
Dual Output LDO, 250 mA, Fixed 3.3, 1.8 V Output, 2.7 to 6 V Input, 20-pin HTSSOP (PWP), -40 to 125 degC, Green (RoHS & no Sb/Br); Manufacturer: Texas Instruments; PartNumber: TPS70751PWPG4; Iout(Max)(A): 0.2; Iout2(A): 0.1; Iq(Typ)(mA): 0.19; SubFamily: Dual Channel LDO; Vdo(Typ)(mV): 83; Vin(Max)(V): 6; Vin(Min)(V): 2.7; Vout(Max)(V): 3.3; Vout2(Max)(V): 1.8; DatasheetVersion: SLVS291D; PackageVersion: 4073225-4/I; PackageReference: PWP20-3005X2005TP; PackageDescription: 20-Pin Plastic Small Outline, Body 6.50 x 4.40 mm, Pitch 0.65 mm; Supplier 1: Digi-Key; Supplier Part Number 1: TPS70751PWPG4-ND; Supplier 2: Mouser; Supplier Part Number 2: 595-TPS70751PWPG4; Eco-Plan: Green (RoHS & no Sb/Br); Fixed Output Options(V): 3.3, 1.8; Vout(Min)(V): 3.3; Vout2(Min)(V): 1.8; Mounting Technology: Surface Mount; Code_JEDEC: MO-153; ComponentLink1Description: Manufacturer URL; ComponentLink1URL: http://www.ti.com/; ComponentLink2Description: Datasheet; ComponentLink2URL: http://www.ti.com/general/docs/lit/getliterature.tsp?genericPartNumber=TPS70751&fileType=pdf; ComponentLink3Description: Package Specification; ComponentLink3URL: http://www.ti.com/lit/ml/mhts001g/mhts001g.pdf
footprint TI-PWP20-3005X2005TP_N (SOP, 20-Leads, Body 6.5x4.4mm, Pitch 0.65mm, Thermal Pad 3.005 x 2.005mm, IPC Medium Density)
footprint TI-PWP20-3005X2005TP_L (SOP, 20-Leads, Body 6.5x4.4mm, Pitch 0.65mm, Thermal Pad 3.005 x 2.005mm, IPC High Density)
footprint TI-PWP20-3005X2005TP_M (SOP, 20-Leads, Body 6.5x4.4mm, Pitch 0.65mm, Thermal Pad 3.005 x 2.005mm, IPC Low Density)
pins: 1 NC "No connection", 2 VIN1 (power) "Input voltage of regulator 1", 3 VIN1 (power) "Input voltage of regulator 1", 4 ~{MR1} (in) "Manual reset input 1, active low, pulled up internally", 5 ~{MR2} (in) "Manual reset input 2, active low, pulled up internally", 6 ~{EN} (in) "Active low enable", 7 SEQ (in) "Power-up sequence control: SEQ = High, VOUT2 powers up first; SEQ = Low, VOUT1 powers up first. SEQ terminal pulled up internally.", 8 GND (power) "Ground", 9 VIN2 (power) "Input voltage of regulator 2", 10 VIN2 (power) "Input voltage of regulator 2", 11 NC "No connection", 12 VOUT2 (power) "Output voltage of regulator 2", 13 VOUT2 (power) "Output voltage of regulator 2", 14 VSENSE2 (in) "Regulator 2 output voltage sense", 15 ~{RESET} (hiz) "Open drain output, SVS (power-on reset) signal, active low", 16 PG1 (hiz) "Open drain output, low when VOUT1 voltage is less than 95% of the nominal regulated voltage", 17 VSENSE1 (in) "Regulator 1 output voltage sense", 18 VOUT1 (power) "Output voltage of regulator 1", 19 VOUT1 (power) "Output voltage of regulator 1", 20 NC "No connection", 21 EP "Exposed Thermal Pad"

## TPS70751PWPR
designator U?
Dual Output LDO, 250 mA, Fixed 3.3, 1.8 V Output, 2.7 to 6 V Input, 20-pin HTSSOP (PWP), -40 to 125 degC, Green (RoHS & no Sb/Br); Manufacturer: Texas Instruments; PartNumber: TPS70751PWPR; Iout(Max)(A): 0.2; Iout2(A): 0.1; Iq(Typ)(mA): 0.19; SubFamily: Dual Channel LDO; Vdo(Typ)(mV): 83; Vin(Max)(V): 6; Vin(Min)(V): 2.7; Vout(Max)(V): 3.3; Vout2(Max)(V): 1.8; DatasheetVersion: SLVS291D; PackageVersion: 4073225-4/I; PackageReference: PWP20-3005X2005TP; PackageDescription: 20-Pin Plastic Small Outline, Body 6.50 x 4.40 mm, Pitch 0.65 mm; Supplier 1: Digi-Key; Supplier Part Number 1: TPS70751PWPR-ND; Supplier 2: Mouser; Supplier Part Number 2: 595-TPS70751PWPR; Eco-Plan: Green (RoHS & no Sb/Br); Fixed Output Options(V): 3.3, 1.8; Vout(Min)(V): 3.3; Vout2(Min)(V): 1.8; Mounting Technology: Surface Mount; Code_JEDEC: MO-153; ComponentLink1Description: Manufacturer URL; ComponentLink1URL: http://www.ti.com/; ComponentLink2Description: Datasheet; ComponentLink2URL: http://www.ti.com/general/docs/lit/getliterature.tsp?genericPartNumber=TPS70751&fileType=pdf; ComponentLink3Description: Package Specification; ComponentLink3URL: http://www.ti.com/lit/ml/mhts001g/mhts001g.pdf
footprint TI-PWP20-3005X2005TP_N (SOP, 20-Leads, Body 6.5x4.4mm, Pitch 0.65mm, Thermal Pad 3.005 x 2.005mm, IPC Medium Density)
footprint TI-PWP20-3005X2005TP_L (SOP, 20-Leads, Body 6.5x4.4mm, Pitch 0.65mm, Thermal Pad 3.005 x 2.005mm, IPC High Density)
footprint TI-PWP20-3005X2005TP_M (SOP, 20-Leads, Body 6.5x4.4mm, Pitch 0.65mm, Thermal Pad 3.005 x 2.005mm, IPC Low Density)
pins: 1 NC "No connection", 2 VIN1 (power) "Input voltage of regulator 1", 3 VIN1 (power) "Input voltage of regulator 1", 4 ~{MR1} (in) "Manual reset input 1, active low, pulled up internally", 5 ~{MR2} (in) "Manual reset input 2, active low, pulled up internally", 6 ~{EN} (in) "Active low enable", 7 SEQ (in) "Power-up sequence control: SEQ = High, VOUT2 powers up first; SEQ = Low, VOUT1 powers up first. SEQ terminal pulled up internally.", 8 GND (power) "Ground", 9 VIN2 (power) "Input voltage of regulator 2", 10 VIN2 (power) "Input voltage of regulator 2", 11 NC "No connection", 12 VOUT2 (power) "Output voltage of regulator 2", 13 VOUT2 (power) "Output voltage of regulator 2", 14 VSENSE2 (in) "Regulator 2 output voltage sense", 15 ~{RESET} (hiz) "Open drain output, SVS (power-on reset) signal, active low", 16 PG1 (hiz) "Open drain output, low when VOUT1 voltage is less than 95% of the nominal regulated voltage", 17 VSENSE1 (in) "Regulator 1 output voltage sense", 18 VOUT1 (power) "Output voltage of regulator 1", 19 VOUT1 (power) "Output voltage of regulator 1", 20 NC "No connection", 21 EP "Exposed Thermal Pad"

## TPS70751PWPRG4
designator U?
Dual Output LDO, 250 mA, Fixed 3.3, 1.8 V Output, 2.7 to 6 V Input, 20-pin HTSSOP (PWP), -40 to 125 degC, Green (RoHS & no Sb/Br); Manufacturer: Texas Instruments; PartNumber: TPS70751PWPRG4; Iout(Max)(A): 0.2; Iout2(A): 0.1; Iq(Typ)(mA): 0.19; SubFamily: Dual Channel LDO; Vdo(Typ)(mV): 83; Vin(Max)(V): 6; Vin(Min)(V): 2.7; Vout(Max)(V): 3.3; Vout2(Max)(V): 1.8; DatasheetVersion: SLVS291D; PackageVersion: 4073225-4/I; PackageReference: PWP20-3005X2005TP; PackageDescription: 20-Pin Plastic Small Outline, Body 6.50 x 4.40 mm, Pitch 0.65 mm; Supplier 1: Digi-Key; Supplier Part Number 1: TPS70751PWPRG4-ND; Supplier 2: Mouser; Supplier Part Number 2: 595-TPS70751PWPRG4; Eco-Plan: Green (RoHS & no Sb/Br); Fixed Output Options(V): 3.3, 1.8; Vout(Min)(V): 3.3; Vout2(Min)(V): 1.8; Mounting Technology: Surface Mount; Code_JEDEC: MO-153; ComponentLink1Description: Manufacturer URL; ComponentLink1URL: http://www.ti.com/; ComponentLink2Description: Datasheet; ComponentLink2URL: http://www.ti.com/general/docs/lit/getliterature.tsp?genericPartNumber=TPS70751&fileType=pdf; ComponentLink3Description: Package Specification; ComponentLink3URL: http://www.ti.com/lit/ml/mhts001g/mhts001g.pdf
footprint TI-PWP20-3005X2005TP_N (SOP, 20-Leads, Body 6.5x4.4mm, Pitch 0.65mm, Thermal Pad 3.005 x 2.005mm, IPC Medium Density)
footprint TI-PWP20-3005X2005TP_L (SOP, 20-Leads, Body 6.5x4.4mm, Pitch 0.65mm, Thermal Pad 3.005 x 2.005mm, IPC High Density)
footprint TI-PWP20-3005X2005TP_M (SOP, 20-Leads, Body 6.5x4.4mm, Pitch 0.65mm, Thermal Pad 3.005 x 2.005mm, IPC Low Density)
pins: 1 NC "No connection", 2 VIN1 (power) "Input voltage of regulator 1", 3 VIN1 (power) "Input voltage of regulator 1", 4 ~{MR1} (in) "Manual reset input 1, active low, pulled up internally", 5 ~{MR2} (in) "Manual reset input 2, active low, pulled up internally", 6 ~{EN} (in) "Active low enable", 7 SEQ (in) "Power-up sequence control: SEQ = High, VOUT2 powers up first; SEQ = Low, VOUT1 powers up first. SEQ terminal pulled up internally.", 8 GND (power) "Ground", 9 VIN2 (power) "Input voltage of regulator 2", 10 VIN2 (power) "Input voltage of regulator 2", 11 NC "No connection", 12 VOUT2 (power) "Output voltage of regulator 2", 13 VOUT2 (power) "Output voltage of regulator 2", 14 VSENSE2 (in) "Regulator 2 output voltage sense", 15 ~{RESET} (hiz) "Open drain output, SVS (power-on reset) signal, active low", 16 PG1 (hiz) "Open drain output, low when VOUT1 voltage is less than 95% of the nominal regulated voltage", 17 VSENSE1 (in) "Regulator 1 output voltage sense", 18 VOUT1 (power) "Output voltage of regulator 1", 19 VOUT1 (power) "Output voltage of regulator 1", 20 NC "No connection", 21 EP "Exposed Thermal Pad"

## TPS70758PWP
designator U?
Dual Output LDO, 250 mA, Fixed 3.3, 2.5 V Output, 2.7 to 6 V Input, 20-pin HTSSOP (PWP), -40 to 125 degC, Green (RoHS & no Sb/Br); Manufacturer: Texas Instruments; PartNumber: TPS70758PWP; Fixed Output Options(V): 3.3, 1.5; Iout(Max)(A): 0.2; Iout2(A): 0.1; Iq(Typ)(mA): 0.19; SubFamily: Dual Channel LDO; Vdo(Typ)(mV): 83; Vin(Max)(V): 6; Vin(Min)(V): 2.7; Vout(Max)(V): 3.3; Vout2(Max)(V): 2.5; DatasheetVersion: SLVS291D; PackageVersion: 4073225-4/I; PackageReference: PWP20-3005X2005TP; PackageDescription: 20-Pin Plastic Small Outline, Body 6.50 x 4.40 mm, Pitch 0.65 mm; Supplier 1: Digi-Key; Supplier Part Number 1: 296-8035-5-ND; Supplier 2: Mouser; Supplier Part Number 2: 595-TPS70758PWP; Eco-Plan: Green (RoHS & no Sb/Br); Vout(Min)(V): 3.3; Vout2(Min)(V): 2.5; Mounting Technology: Surface Mount; Code_JEDEC: MO-153; ComponentLink1Description: Manufacturer URL; ComponentLink1URL: http://www.ti.com/; ComponentLink2Description: Datasheet; ComponentLink2URL: http://www.ti.com/general/docs/lit/getliterature.tsp?genericPartNumber=TPS70758&fileType=pdf; ComponentLink3Description: Package Specification; ComponentLink3URL: http://www.ti.com/lit/ml/mhts001g/mhts001g.pdf
footprint TI-PWP20-3005X2005TP_N (SOP, 20-Leads, Body 6.5x4.4mm, Pitch 0.65mm, Thermal Pad 3.005 x 2.005mm, IPC Medium Density)
footprint TI-PWP20-3005X2005TP_L (SOP, 20-Leads, Body 6.5x4.4mm, Pitch 0.65mm, Thermal Pad 3.005 x 2.005mm, IPC High Density)
footprint TI-PWP20-3005X2005TP_M (SOP, 20-Leads, Body 6.5x4.4mm, Pitch 0.65mm, Thermal Pad 3.005 x 2.005mm, IPC Low Density)
pins: 1 NC "No connection", 2 VIN1 (power) "Input voltage of regulator 1", 3 VIN1 (power) "Input voltage of regulator 1", 4 ~{MR1} (in) "Manual reset input 1, active low, pulled up internally", 5 ~{MR2} (in) "Manual reset input 2, active low, pulled up internally", 6 ~{EN} (in) "Active low enable", 7 SEQ (in) "Power-up sequence control: SEQ = High, VOUT2 powers up first; SEQ = Low, VOUT1 powers up first. SEQ terminal pulled up internally.", 8 GND (power) "Ground", 9 VIN2 (power) "Input voltage of regulator 2", 10 VIN2 (power) "Input voltage of regulator 2", 11 NC "No connection", 12 VOUT2 (power) "Output voltage of regulator 2", 13 VOUT2 (power) "Output voltage of regulator 2", 14 VSENSE2 (in) "Regulator 2 output voltage sense", 15 ~{RESET} (hiz) "Open drain output, SVS (power-on reset) signal, active low", 16 PG1 (hiz) "Open drain output, low when VOUT1 voltage is less than 95% of the nominal regulated voltage", 17 VSENSE1 (in) "Regulator 1 output voltage sense", 18 VOUT1 (power) "Output voltage of regulator 1", 19 VOUT1 (power) "Output voltage of regulator 1", 20 NC "No connection", 21 EP "Exposed Thermal Pad"

## TPS70758PWPG4
designator U?
Dual Output LDO, 250 mA, Fixed 3.3, 2.5 V Output, 2.7 to 6 V Input, 20-pin HTSSOP (PWP), -40 to 125 degC, Green (RoHS & no Sb/Br); Manufacturer: Texas Instruments; PartNumber: TPS70758PWPG4; Fixed Output Options(V): 3.3, 1.5; Iout(Max)(A): 0.2; Iout2(A): 0.1; Iq(Typ)(mA): 0.19; SubFamily: Dual Channel LDO; Vdo(Typ)(mV): 83; Vin(Max)(V): 6; Vin(Min)(V): 2.7; Vout(Max)(V): 3.3; Vout2(Max)(V): 2.5; DatasheetVersion: SLVS291D; PackageVersion: 4073225-4/I; PackageReference: PWP20-3005X2005TP; PackageDescription: 20-Pin Plastic Small Outline, Body 6.50 x 4.40 mm, Pitch 0.65 mm; Supplier 1: Digi-Key; Supplier Part Number 1: TPS70758PWPG4-ND; Supplier 2: Newark; Supplier Part Number 2: 27M1100; Supplier 3: Mouser; Supplier Part Number 3: 595-TPS70758PWPG4; Eco-Plan: Green (RoHS & no Sb/Br); Vout(Min)(V): 3.3; Vout2(Min)(V): 2.5; Mounting Technology: Surface Mount; Code_JEDEC: MO-153; ComponentLink1Description: Manufacturer URL; ComponentLink1URL: http://www.ti.com/; ComponentLink2Description: Datasheet; ComponentLink2URL: http://www.ti.com/general/docs/lit/getliterature.tsp?genericPartNumber=TPS70758&fileType=pdf; ComponentLink3Description: Package Specification; ComponentLink3URL: http://www.ti.com/lit/ml/mhts001g/mhts001g.pdf
footprint TI-PWP20-3005X2005TP_N (SOP, 20-Leads, Body 6.5x4.4mm, Pitch 0.65mm, Thermal Pad 3.005 x 2.005mm, IPC Medium Density)
footprint TI-PWP20-3005X2005TP_L (SOP, 20-Leads, Body 6.5x4.4mm, Pitch 0.65mm, Thermal Pad 3.005 x 2.005mm, IPC High Density)
footprint TI-PWP20-3005X2005TP_M (SOP, 20-Leads, Body 6.5x4.4mm, Pitch 0.65mm, Thermal Pad 3.005 x 2.005mm, IPC Low Density)
pins: 1 NC "No connection", 2 VIN1 (power) "Input voltage of regulator 1", 3 VIN1 (power) "Input voltage of regulator 1", 4 ~{MR1} (in) "Manual reset input 1, active low, pulled up internally", 5 ~{MR2} (in) "Manual reset input 2, active low, pulled up internally", 6 ~{EN} (in) "Active low enable", 7 SEQ (in) "Power-up sequence control: SEQ = High, VOUT2 powers up first; SEQ = Low, VOUT1 powers up first. SEQ terminal pulled up internally.", 8 GND (power) "Ground", 9 VIN2 (power) "Input voltage of regulator 2", 10 VIN2 (power) "Input voltage of regulator 2", 11 NC "No connection", 12 VOUT2 (power) "Output voltage of regulator 2", 13 VOUT2 (power) "Output voltage of regulator 2", 14 VSENSE2 (in) "Regulator 2 output voltage sense", 15 ~{RESET} (hiz) "Open drain output, SVS (power-on reset) signal, active low", 16 PG1 (hiz) "Open drain output, low when VOUT1 voltage is less than 95% of the nominal regulated voltage", 17 VSENSE1 (in) "Regulator 1 output voltage sense", 18 VOUT1 (power) "Output voltage of regulator 1", 19 VOUT1 (power) "Output voltage of regulator 1", 20 NC "No connection", 21 EP "Exposed Thermal Pad"

## TPS70802PWP
designator U?
Dual Output LDO, 500 mA, 2.7 to 6 V Input, with Integrated SVS, 20-pin HTSSOP (PWP), -40 to 125 degC, Green (RoHS & no Sb/Br); Manufacturer: Texas Instruments; PartNumber: TPS70802PWP; Iout(Max)(A): 0.5; Iout2(A): 0.2; Iq(Typ)(mA): 0.19; SubFamily: Dual Channel LDO; Vdo(Typ)(mV): 83; Vin(Max)(V): 6; Vin(Min)(V): 2.7; Vout2(Max)(V): 5.5; Vout2(Min)(V): 1.2; DatasheetVersion: SLVS301D; PackageVersion: 4073225-4/I; PackageReference: PWP20-3005X2005TP; PackageDescription: 20-Pin Plastic Small Outline, Body 6.50 x 4.40 mm, Pitch 0.65 mm; Supplier 1: Digi-Key; Supplier Part Number 1: 296-8036-5-ND; Supplier 2: Mouser; Supplier Part Number 2: 595-TPS70802PWP; Eco-Plan: Green (RoHS & no Sb/Br); Mounting Technology: Surface Mount; Code_JEDEC: MO-153; ComponentLink1Description: Manufacturer URL; ComponentLink1URL: http://www.ti.com/; ComponentLink2Description: Datasheet; ComponentLink2URL: http://www.ti.com/general/docs/lit/getliterature.tsp?genericPartNumber=TPS70802&fileType=pdf; ComponentLink3Description: Package Specification; ComponentLink3URL: http://www.ti.com/lit/ml/mhts001g/mhts001g.pdf
footprint TI-PWP20-3005X2005TP_N (SOP, 20-Leads, Body 6.5x4.4mm, Pitch 0.65mm, Thermal Pad 3.005 x 2.005mm, IPC Medium Density)
footprint TI-PWP20-3005X2005TP_L (SOP, 20-Leads, Body 6.5x4.4mm, Pitch 0.65mm, Thermal Pad 3.005 x 2.005mm, IPC High Density)
footprint TI-PWP20-3005X2005TP_M (SOP, 20-Leads, Body 6.5x4.4mm, Pitch 0.65mm, Thermal Pad 3.005 x 2.005mm, IPC Low Density)
pins: 1 NC "No connection", 2 VIN1 (power) "Input voltage of regulator 1", 3 VIN1 (power) "Input voltage of regulator 1", 4 ~{MR} (in) "Manual reset input, active low, pulled up internally", 5 ~{EN1} (in) "Active low enable for VOUT1", 6 ~{EN2} (in) "Active low enable for VOUT2", 7 ~{RESET} (hiz) "Open drain output, SVS (power-on reset) signal, active low", 8 GND (power) "Ground", 9 VIN2 (power) "Input voltage of regulator 2", 10 VIN2 (power) "Input voltage of regulator 2", 11 NC "No connection", 12 VOUT2 (power) "Output voltage of regulator 2", 13 VOUT2 (power) "Output voltage of regulator 2", 14 FB2 (in) "regulator 2 feedback for adjustable", 15 PG2 (hiz) "Open drain output, low when VOUT2 voltage is less than 95% of the nominal regulated voltage", 16 PG1 (hiz) "Open drain output, low when VOUT1 voltage is less than 95% of the nominal regulated voltage", 17 FB1 (in) "regulator 1 feedback for adjustable", 18 VOUT1 (power) "Output voltage of regulator 1", 19 VOUT1 (power) "Output voltage of regulator 1", 20 NC "No connection", 21 EP "Thermal pad"

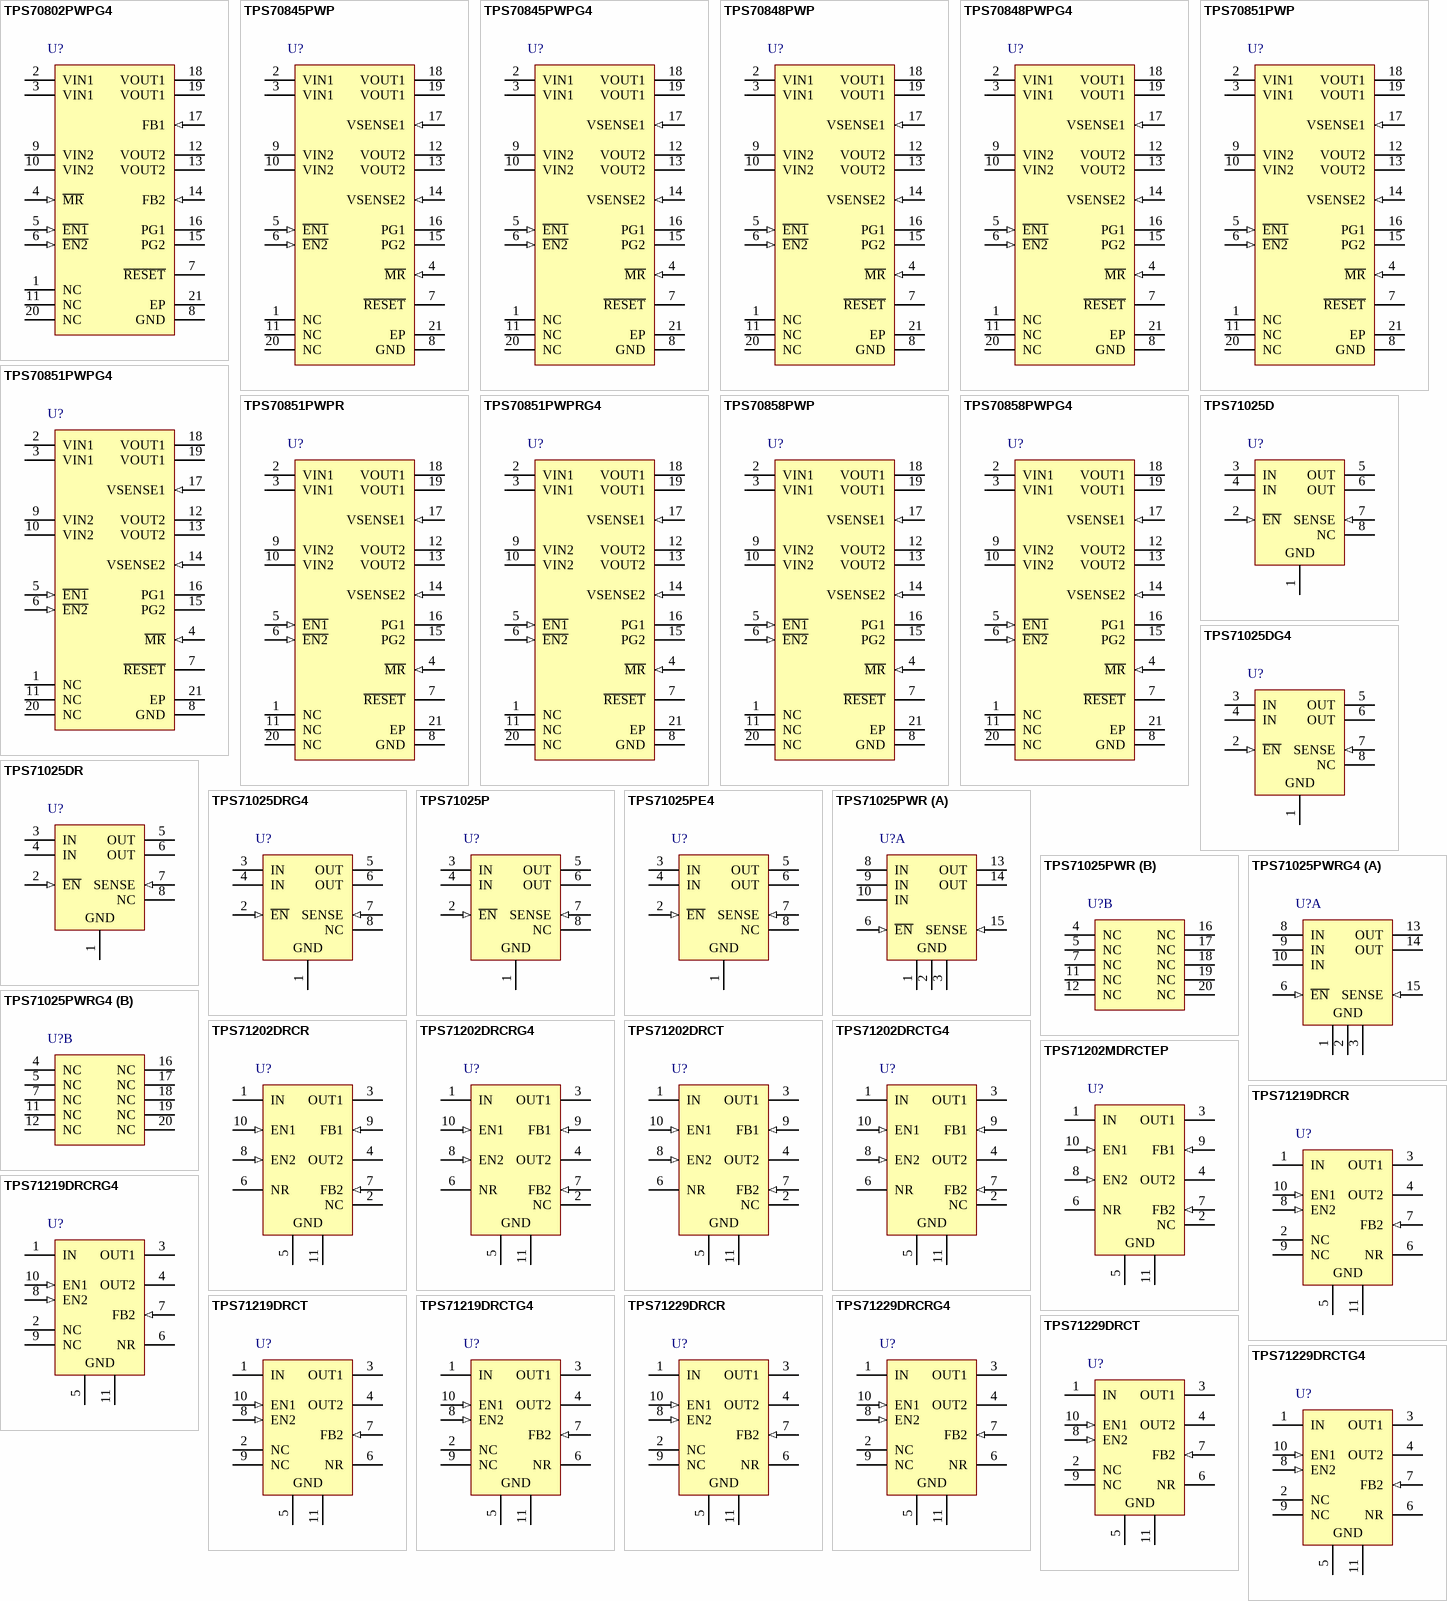
[diagram p9: symbols TPS70802PWPG4 to TPS71229DRCTG4]